# Altium footprint library AP2112K-3.3TRG1.PcbLib: 2 footprints
Each footprint in its own frame and in the unit in brackets; x right, y up, seen from the top. Pads: shape width x height; smd on the part's side, far side on the other; paste and mask are expansions set on the pad; w line width, h text height; cw(c..) or ccw(c..) is an arc to the next point about the centre after c.
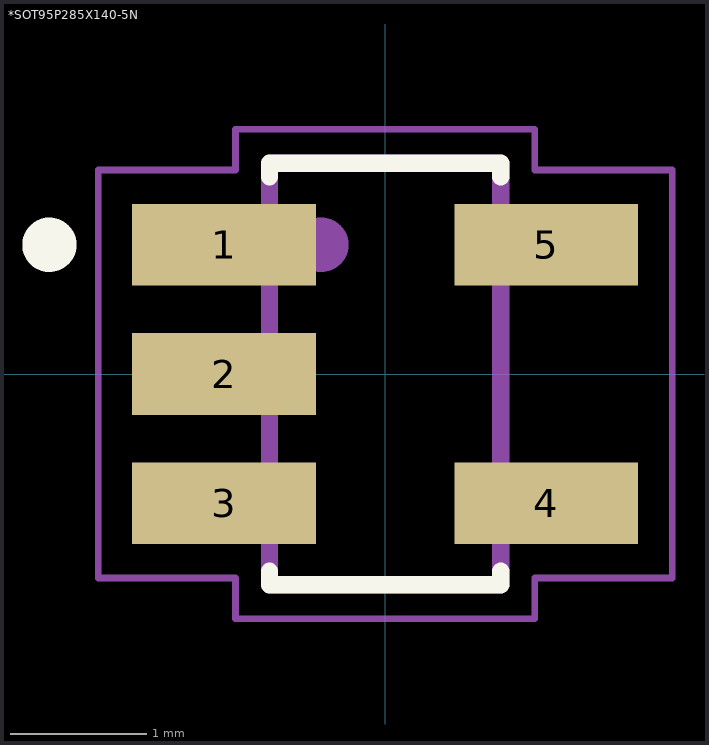
[diagram p0: the footprints below, top view; thin cyan lines are the x and y axes]

## *SOT95P285X140-5N [mm]
pads (5):
  rect 1.35x0.6 smd: 1(-1.185,0.95) 2(-1.185,0) 3(-1.185,-0.95) 4(1.185,-0.95) 5(1.185,0.95)
Top Overlay:
  circle w0.2: c-2.469,0.95 r0.1
  lines w0.127: -0.85,-1.45 -0.85,-1.55 0.85,-1.55 0.85,-1.45 ; -0.85,1.45 -0.85,1.55 0.85,1.55 0.85,1.45
Mechanical 13:
  circle w0.2: c-0.469,0.95 r0.1
  circle w0.2: c-0.469,0.95 r0.1
  lines w0.127: -0.85,-1.55 -0.85,1.55 ; -0.85,-1.55 0.85,-1.55 ; -0.85,-1.55 -0.85,1.55 ; -0.85,-1.55 0.85,-1.55 ; -0.85,1.55 0.85,1.55 ; -0.85,1.55 0.85,1.55 ; 0.85,-1.55 0.85,1.55 ; 0.85,-1.55 0.85,1.55
Mechanical 15:
  lines w0.05: -2.11,-1.5 -1.1,-1.5 -1.1,-1.8 1.1,-1.8 1.1,-1.5 2.11,-1.5 2.11,1.5 1.1,1.5 1.1,1.8 -1.1,1.8 -1.1,1.5 -2.11,1.5 -2.11,-1.5

## PCBComponent_1 [mm]